# EAGLE library part BR25S640FJ-WE2 (library eeprom)
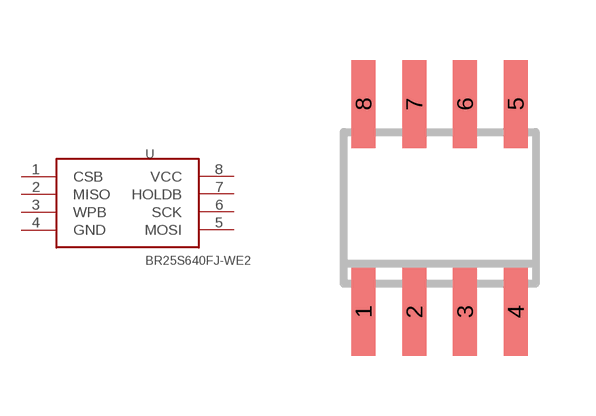
[diagram p0: symbol with the pads of SO8; footprint SO8]

Designator prefix -

## BR25S640FJ-WE2  [SO8]
1  CSB
2  MISO
3  WPB
4  GND
5  MOSI
6  SCK
7  HOLDB
8  VCC

## Footprint SO8 (pad centres in mm)
SMALL OUTLINE INTEGRATED CIRCUIT SOP-8L Source: http://www.diodes.com/datasheets/ds31262.pdf
smd 0.6 x 2.2: 1 -1.905,-2.6; 2 -0.635,-2.6; 3 0.635,-2.6; 4 1.905,-2.6; 5 1.905,2.6; 6 0.635,2.6; 7 -0.635,2.6; 8 -1.905,2.6